# Altium schematic symbol library TCK106X.SchLib: 1 symbol
Pins are listed as number, name and electrical type; pins without a type are passive.

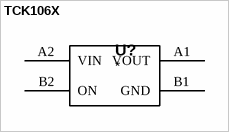
[diagram p0: symbol TCK106X]

## TCK106X
designator U?
Value: *
pins: A1 VOUT, A2 VIN, B1 GND, B2 ON